# EAGLE library part HV80 (library HV80)
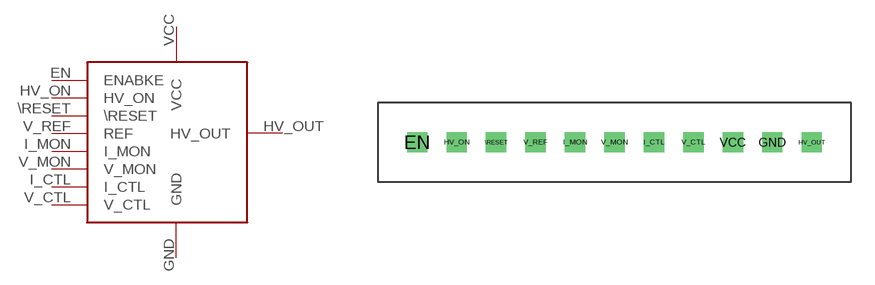
[diagram p0: symbol with the pads of HV80; footprint HV80]

Designator prefix -

## HV80  [HV80]
\RESET  \RESET
EN  ENABKE
GND  GND
HV_ON  HV_ON
HV_OUT  HV_OUT
I_CTL  I_CTL
I_MON  I_MON
V_CTL  V_CTL
V_MON  V_MON
V_REF  REF
VCC  VCC

## Footprint HV80 (pad centres in mm)
drill 0.8 square: \RESET 5.08,0; EN 0,0; GND 22.86,0; HV_ON 2.54,0; HV_OUT 25.4,0; I_CTL 15.24,0; I_MON 10.16,0; V_CTL 17.78,0; V_MON 12.7,0; V_REF 7.62,0; VCC 20.32,0